# EAGLE library part MCP2515 (library MSTFSAE-DigitalIC)
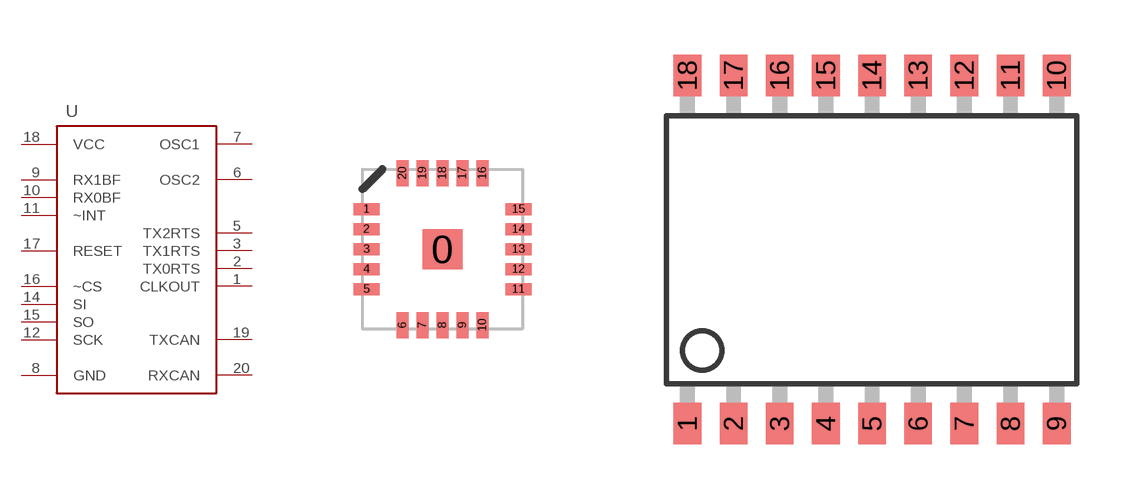
[diagram p1: symbol with the pads of QFN20; footprints QFN20, SO-18W]

Designator prefix -

## MCP2515QFN20  [QFN20]
1  CLKOUT
2  TX0RTS
3  TX1RTS
5  TX2RTS
6  OSC2
7  OSC1
8  GND
9  RX1BF
10  RX0BF
11  ~INT
12  SCK
14  SI
15  SO
16  ~CS
17  RESET
18  VCC
19  TXCAN
20  RXCAN

## MCP2515SOIC18  [SO-18W]
1  TXCAN
2  RXCAN
3  CLKOUT
4  TX0RTS
5  TX1RTS
6  TX2RTS
7  OSC2
8  OSC1
9  GND
10  RX1BF
11  RX0BF
12  ~INT
13  SCK
14  SI
15  SO
16  ~CS
17  RESET
18  VCC

## Footprint QFN20 (pad centres in mm)
smd 1 x 1: 0 0,0
smd 0.65 x 0.3: 1 -1.9,1; 2 -1.9,0.5; 3 -1.9,0; 4 -1.9,-0.5; 5 -1.9,-1; 11 1.9,-1; 12 1.9,-0.5; 13 1.9,0; 14 1.9,0.5; 15 1.9,1
smd 0.3 x 0.65: 6 -1,-1.9; 7 -0.5,-1.9; 8 0,-1.9; 9 0.5,-1.9; 10 1,-1.9; 16 1,1.9; 17 0.5,1.9; 18 0,1.9; 19 -0.5,1.9; 20 -1,1.9

## Footprint SO-18W (pad centres in mm)
Small Outline Wide Plastic Gull Wing 300-mil body, package type SO
smd 0.762 x 1.143: 1 -5.08,-4.788; 2 -3.81,-4.788; 3 -2.54,-4.788; 4 -1.27,-4.788; 5 0,-4.788; 6 1.27,-4.788; 7 2.54,-4.788; 8 3.81,-4.788; 9 5.08,-4.788; 10 5.08,4.788; 11 3.81,4.788; 12 2.54,4.788; 13 1.27,4.788; 14 0,4.788; 15 -1.27,4.788; 16 -2.54,4.788; 17 -3.81,4.788; 18 -5.08,4.788